# Altium schematic symbol library WL-STTW.SchLib: 1 symbol
Pins are listed as number, name and electrical type; pins without a type are passive.

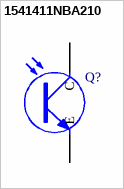
[diagram p0: symbol 1541411NBA210]

## 1541411NBA210
designator Q?  (value not drawn)
WL-STTW SMT Phototransistor Top Waterclear, size 3528, 400-1100nm, 3.1mA, 120°; Manufacturer: Wurth Elektronik; Case/Size Code: 3528; Chip Technology: Si; Collector Current Min: 0.6mA; Collector-Emitter Dark Current: 100nA; Polarity: NPN Phototransistor; Range of Spectral Bandwidth Min: 400nm; Range of Spectral Bandwidth Max: 1100nm; Wavelength of Peak Sensitivity: 940nm; ComponentLink1Description: Website Link; ComponentLink1URL: https://www.we-online.com/redexpert/article/1541411NBA210?ad; ComponentLink2Description: Datasheet Link; ComponentLink2URL: https://www.we-online.com/redexpert/spec/1541411NBA210?ad; Manufacturer Part Number: 1541411NBA210; Category: Phototransistors; Match Code: WL-STTW; Mount: Surface Mount; Operating Temperature Max: 85°C; Operating Temperature Min: -40°C; Packaging: Tape and Reel; Length: 3.5mm; Width: 2.8mm; Height: 1.9mm; Collector Current: 3.1mA; Viewing Angle: 120°
footprint WL-STTW_3528
pins: 1 C, 2 E